# Altium footprint library PCB13.PcbLib: 25 footprints (part 1 of 2)
Each footprint in its own frame and in the unit in brackets; x right, y up, seen from the top. Pads: shape width x height; smd on the part's side, far side on the other; paste and mask are expansions set on the pad; w line width, h text height; cw(c..) or ccw(c..) is an arc to the next point about the centre after c.
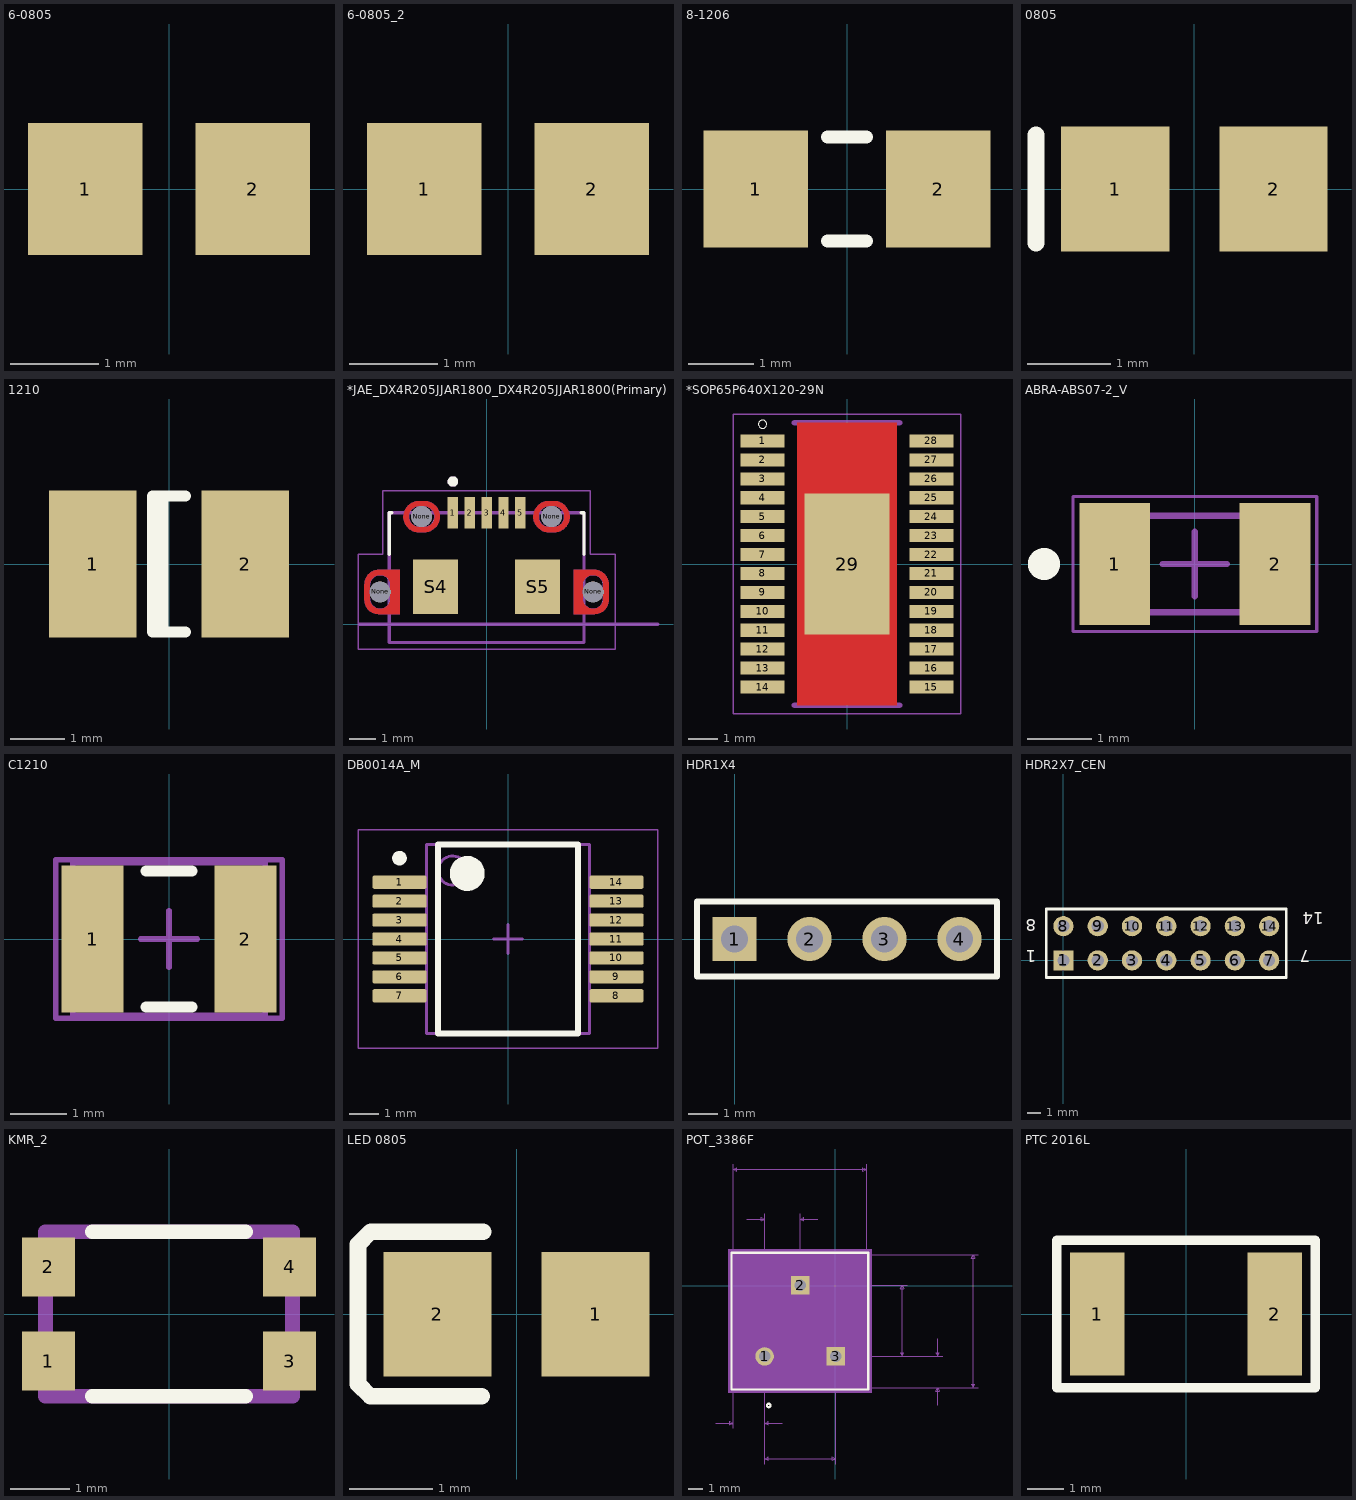
[diagram p0: the footprints below, top view; thin cyan lines are the x and y axes]

## 6-0805 [mm]
pads (2):
  rect 1.3x1.5 smd: 1(-0.95,0) 2(0.95,0)

## 6-0805_2 [mm]
pads (2):
  rect 1.3x1.5 smd: 1(-0.95,0) 2(0.95,0)

## 8-1206 [mm] "Chip Resistor; Body 3.1 x 1.6 mm (LxW typ)"
height 0.7
pads (2):
  rect 1.6x1.8 smd: 1(-1.4,0) 2(1.4,0)
Top Overlay:
  lines w0.2: -0.3,-0.8 0.3,-0.8 ; -0.3,0.8 0.3,0.8

## 0805 [mm]
pads (2):
  rect 1.3x1.5 smd: 1(-0.95,0) 2(0.95,0)
Top Overlay:
  lines w0.2: -1.9,-0.65 -1.9,0.65

## 1210 [mm] "Chip Capacitor; Body 3.2 x 2.5 mm (LxW typ)"
height 1.7
pads (2):
  rect 1.6x2.7 smd: 1(-1.4,0) 2(1.4,0)
Top Overlay:
  lines w0.2: -0.11,-1.25 -0.11,1.25 ; 0.3,-1.25 -0.3,-1.25 -0.3,1.25 0.3,1.25

## *JAE_DX4R205JJAR1800_DX4R205JJAR1800(Primary) [mm]
pads (11):
  rect 0.4x1.2 smd: 1(-1.3,4.3) 2(-0.65,4.3) 3(0,4.3) 4(0.65,4.3) 5(1.3,4.3)
  round 0.8 hole 0.8 unplated: None(-4.1,1.25) None(-2.5,4.15) None(2.5,4.15) None(4.1,1.25)
  rect 1.725x2.1 smd: S4(-1.962,1.45) S5(1.962,1.45)
Top Layer:
  region: 196 vertices and 0 holes, not listed, extent 3.35,0.4 4.7,2.1
  region: 199 vertices and 0 holes, not listed, extent -4.7,0.4 -3.35,2.1
  region: 259 vertices and 0 holes, not listed, extent -3.2,3.55 -1.8,4.75
  region: 262 vertices and 0 holes, not listed, extent 1.8,3.55 3.2,4.75
Bottom Layer:
  region: 196 vertices and 0 holes, not listed, extent 3.35,0.4 4.7,2.1
  region: 196 vertices and 0 holes, not listed, extent -4.7,0.4 -3.35,2.1
  region: 262 vertices and 0 holes, not listed, extent 1.8,3.55 3.2,4.75
  region: 259 vertices and 0 holes, not listed, extent -3.2,3.55 -1.8,4.75
Top Overlay:
  circle w0.2: c-1.3,5.5 r0.1
  lines w0.127: -3.75,2.7 -3.75,4.3 -3.65,4.3 ; 3.65,4.3 3.75,4.3 3.75,2.7
Top Paste:
  drawing of 4 lines, arcs and shapes, not listed
Bottom Paste:
  drawing of 4 lines, arcs and shapes, not listed
Top Solder:
  drawing of 4 lines, arcs and shapes, not listed
Bottom Solder:
  drawing of 4 lines, arcs and shapes, not listed
Mechanical 1:
  lines w0: -4.5,1 ccw(c-4.1,1) -3.7,1 -3.7,1.5 ccw(c-4.1,1.5) -4.5,1.5 -4.5,1 ; -2.6,3.75 cw(c-2.6,4.15) -2.6,4.55 -2.4,4.55 cw(c-2.4,4.15) -2.4,3.75 -2.6,3.75 ; 2.4,3.75 cw(c2.4,4.15) 2.4,4.55 2.6,4.55 cw(c2.6,4.15) 2.6,3.75 2.4,3.75 ; 3.7,1 ccw(c4.1,1) 4.5,1 4.5,1.5 ccw(c4.1,1.5) 3.7,1.5 3.7,1
Mechanical 4:
  circle w0.2: c-1.3,5.5 r0.1
  circle w0.2: c-1.3,5.5 r0.1
  lines w0.127: -3.75,-0.7 -3.75,4.3 ; -3.75,-0.7 3.75,-0.7 ; -3.75,-0.7 -3.75,4.3 ; -3.75,-0.7 3.75,-0.7 ; -3.75,4.3 3.75,4.3 ; -3.75,4.3 3.75,4.3 ; 3.75,-0.7 3.75,4.3 ; 3.75,-0.7 3.75,4.3 ; -4.9,0 6.6,0 -4.9,0
  text "PCB EDGE" at 4.8,-0.15 h1.88
  text "PCB EDGE" at 4.8,-0.15 h1.88
Mechanical 16:
  lines w0.05: -4.95,-0.95 4.95,-0.95 4.95,2.7 4,2.7 4,5.15 -4,5.15 -4,2.7 -4.95,2.7 -4.95,-0.95

## *SOP65P640X120-29N [mm]
pads (29):
  rect 1.5x0.45 smd: 1(-2.9,4.225) 2(-2.9,3.575) 3(-2.9,2.925) 4(-2.9,2.275) 5(-2.9,1.625) 6(-2.9,0.975) 7(-2.9,0.325) 8(-2.9,-0.325) 9(-2.9,-0.975) 10(-2.9,-1.625) 11(-2.9,-2.275) 12(-2.9,-2.925) 13(-2.9,-3.575) 14(-2.9,-4.225) 15(2.9,-4.225) 16(2.9,-3.575) 17(2.9,-2.925) 18(2.9,-2.275) 19(2.9,-1.625) 20(2.9,-0.975) 21(2.9,-0.325) 22(2.9,0.325) 23(2.9,0.975) 24(2.9,1.625) 25(2.9,2.275) 26(2.9,2.925) 27(2.9,3.575) 28(2.9,4.225)
  rect 2.921x4.826 smd: 29(0,0)
Top Layer:
  region: -1.7,4.85 1.7,4.85 1.7,-4.85 -1.7,-4.85
Top Overlay:
  circle w0: c-2.9,4.8 r0.141
Top Paste:
  region: -0.851,2.2 0.85,2.2 0.85,0.2 -0.851,0.2
  region: -0.851,-0.2 0.85,-0.2 0.85,-2.203 -0.851,-2.203
Mechanical 13:
  circle w0: c-1.3,4.4 r0.2
  circle w0.1: c0,0 r0.2
  circle w0.1: c1.3,0 r0.2
  circle w0.1: c-1.3,0 r0.2
  circle w0.1: c-1.3,1.3 r0.2
  circle w0.1: c0,1.3 r0.2
  circle w0.1: c1.3,1.3 r0.2
  circle w0.1: c1.3,2.6 r0.2
  circle w0.1: c1.3,3.9 r0.2
  circle w0.1: c0,3.9 r0.2
  circle w0.1: c0,2.6 r0.2
  circle w0.1: c-1.3,2.6 r0.2
  circle w0.1: c-1.3,3.9 r0.2
  circle w0.1: c-1.3,-1.3 r0.2
  circle w0.1: c0,-1.3 r0.2
  circle w0.1: c1.3,-1.3 r0.2
  circle w0.1: c1.3,-2.6 r0.2
  circle w0.1: c0,-2.6 r0.2
  circle w0.1: c-1.3,-2.6 r0.2
  circle w0.1: c-1.3,-3.9 r0.2
  circle w0.1: c0,-3.9 r0.2
  circle w0.1: c1.3,-3.9 r0.2
  circle w0: c-1.3,4.4 r0.2
  circle w0.1: c0,0 r0.2
  circle w0.1: c1.3,0 r0.2
  circle w0.1: c-1.3,0 r0.2
  circle w0.1: c-1.3,1.3 r0.2
  circle w0.1: c0,1.3 r0.2
  circle w0.1: c1.3,1.3 r0.2
  circle w0.1: c1.3,2.6 r0.2
  circle w0.1: c1.3,3.9 r0.2
  circle w0.1: c0,3.9 r0.2
  circle w0.1: c0,2.6 r0.2
  circle w0.1: c-1.3,2.6 r0.2
  circle w0.1: c-1.3,3.9 r0.2
  circle w0.1: c-1.3,-1.3 r0.2
  circle w0.1: c0,-1.3 r0.2
  circle w0.1: c1.3,-1.3 r0.2
  circle w0.1: c1.3,-2.6 r0.2
  circle w0.1: c0,-2.6 r0.2
  circle w0.1: c-1.3,-2.6 r0.2
  circle w0.1: c-1.3,-3.9 r0.2
  circle w0.1: c0,-3.9 r0.2
  circle w0.1: c1.3,-3.9 r0.2
  lines w0.2: -1.8,-4.85 1.8,-4.85 -1.8,-4.85 ; -1.8,4.85 1.8,4.85 -1.8,4.85
Mechanical 15:
  lines w0.05: -3.9,-5.15 3.9,-5.15 3.9,5.15 -3.9,5.15 -3.9,-5.15

## ABRA-ABS07-2_V [mm] "Hand Drawn, 2-Leads, Body 3.2x1.5mm, Pitch 2.5mm"
height 0.9
pads (2):
  rect 1.1x1.9 smd: 1(-1.25,0) 2(1.25,0)
Top Overlay:
  circle w0.25: c-2.35,0 r0.125
Mechanical 13:
  lines w0.1: -1.6,-0.75 1.6,-0.75 1.6,0.75 -1.6,0.75 -1.6,-0.75
Mechanical 15:
  lines w0.05: -1.9,-1.05 1.9,-1.05 1.9,1.05 -1.9,1.05 -1.9,-1.05
  lines w0.1: -0.5,0 0.5,0 ; 0,-0.5 0,0.5
3D body: height 0.9, standoff 0, extent -1.6,-0.75 1.6,0.75

## C1210 [mm] "Chip Capacitor, Body 3.2x2.5mm, IPC High Density"
height 1.3
pads (2):
  rect 1.1x2.6 smd: 1(-1.35,0) 2(1.35,0)
Top Overlay:
  lines w0.2: -0.4,-1.2 0.4,-1.2 ; -0.4,1.2 0.4,1.2
Mechanical 13:
  lines w0.1: -1.7,-1.35 1.7,-1.35 1.7,1.35 -1.7,1.35 -1.7,-1.35
Mechanical 15:
  lines w0.1: -0.5,0 0.5,0 ; 0,-0.5 0,0.5 ; -2,-1.4 2,-1.4 2,1.4 -2,1.4 -2,-1.4
3D body: height 1.3, standoff 0, extent -1.7,-1.35 1.7,1.35

## DB0014A_M [mm] "SOP, 14-Leads, Body 5.6x6.5mm, Pitch 0.65mm, IPC Low Density"
height 2
pads (14):
  rrect22% 1.85x0.45 smd: 1(-3.725,1.95) 2(-3.725,1.3) 3(-3.725,0.65) 4(-3.725,0) 5(-3.725,-0.65) 6(-3.725,-1.3) 7(-3.725,-1.95) 8(3.725,-1.95) 9(3.725,-1.3) 10(3.725,-0.65) 11(3.725,0) 12(3.725,0.65) 13(3.725,1.3) 14(3.725,1.95)
Top Overlay:
  circle w0.6: c-1.4,2.25 r0.3
  circle w0.25: c-3.725,2.775 r0.125
  lines w0.2: -2.4,-3.25 2.4,-3.25 2.4,3.25 -2.4,3.25 -2.4,-3.25
Mechanical 1:
  text ".Designator" at -1.651,-0.381 h1
Mechanical 13:
  circle w0.1: c-1.9,2.35 r0.5
  lines w0.1: -2.8,-3.25 2.8,-3.25 2.8,3.25 -2.8,3.25 -2.8,-3.25
Mechanical 15:
  lines w0.05: -5.15,-3.75 5.15,-3.75 5.15,3.75 -5.15,3.75 -5.15,-3.75
  lines w0.1: -0.5,0 0.5,0 ; 0,-0.5 0,0.5
3D body "DB0014A.stp": height 2, standoff 0, extent -3.905,-3.1 3.906,3.1

## HDR1X4 [mm] "Connector; Header; 4 Position"
pads (4):
  rect 1.5x1.5 hole 0.9: 1(0,0)
  round 1.5 hole 0.9: 2(2.54,0) 3(5.08,0) 4(7.62,0)
Top Overlay:
  lines w0.2: -1.27,-1.27 -1.27,1.27 8.89,1.27 8.89,-1.27 -1.27,-1.27

## HDR2X7_CEN [mm] "Connector; Header; 7x2 Position"
pads (14):
  rect 1.5x1.5 hole 0.9: 1(0,0)
  round 1.5 hole 0.9: 2(2.54,0) 3(5.08,0) 4(7.62,0) 5(10.16,0) 6(12.7,0) 7(15.24,0) 8(0,2.54) 9(2.54,2.54) 10(5.08,2.54) 11(7.62,2.54) 12(10.16,2.54) 13(12.7,2.54) 14(15.24,2.54)
Top Overlay:
  lines w0.2: -1.27,-1.27 -1.27,3.81 16.51,3.81 16.51,-1.27 -1.27,-1.27
  text "14" at 19.304,3.556 h0.89
  text "7" at 18.288,0.762 h0.89
  text "1" at -2.032,0.762 h0.89
  text "8" at -2.032,3.048 h0.89

## KMR_2 [mm]
pads (4):
  rect 0.9x1 smd: 1(-2.05,-0.8) 2(-2.05,0.8) 3(2.05,-0.8) 4(2.05,0.8)
Top Overlay:
  lines w0.25: -1.3,-1.4 1.3,-1.4 ; -1.3,1.4 1.3,1.4
Mechanical 13:
  lines w0.25: -2.1,-1.4 2.1,-1.4 2.1,1.4 -2.1,1.4 -2.1,-1.4

## LED 0805 [mm]
pads (2):
  rect 1.3x1.5 smd: 1(0.95,0) 2(-0.95,0)
Top Overlay:
  lines w0.2: -0.417,-0.986 -1.758,-0.986 -1.905,-0.838 -1.905,0.838 -1.753,0.991 -0.402,0.991

## POT_3386F [mil]
pads (3):
  round 52 hole 32 mask+0: 1(-199,-199)
  rect 52x52 hole 32 mask+0: 2(-99,1) 3(1,-199)
Top Overlay:
  circle w6: c-187.5,-337 r5
  lines w6: -292,-292 93,-292 93,93 -292,93 -292,-292
Mechanical 5:
  region: -302,103 103,103 103,-302 -302,-302
Mechanical 7:
  lines w1: -337,-387 -287,-387 ; -287,-402 -287,-297 ; -287,88 -287,343 ; -249,188 -199,188 ; -199,-502 -199,-235 ; -199,-402 -199,-235 ; -199,203 -199,-235 ; -149,-387 -199,-387 ; -99,-35 -99,203 ; -63,1 203,1 ; -49,188 -99,188 ; 1,-502 1,-35 ; 88,343 88,88 403,88 ; 203,-199 37,-199 303,-199 ; 288,-337 288,-287 ; 288,-149 288,-199 ; 303,-287 88,-287 403,-287 ; -287,-387 -297,-382 -297,-392 -287,-387 ; -287,328 88,328 ; -287,328 -277,333 -277,323 -287,328 ; -199,-487 1,-487 ; -199,-487 -189,-482 -189,-492 -199,-487 ; -199,-387 -189,-382 -189,-392 -199,-387 ; -199,188 -209,193 -209,183 -199,188 ; -99,188 -89,193 -89,183 -99,188 ; 1,-487 -9,-482 -9,-492 1,-487 ; 88,328 78,333 78,323 88,328 ; 188,-199 188,1 ; 188,-199 183,-189 193,-189 188,-199 ; 188,1 183,-9 193,-9 188,1 ; 288,-287 283,-297 293,-297 288,-287 ; 288,-199 283,-189 293,-189 288,-199 ; 388,-287 388,88 ; 388,-287 383,-277 393,-277 388,-287 ; 388,88 383,78 393,78 388,88
  text "Pin 1 Padstyle: SX52Y52D32P" at -437,-637 h50
  text "Default Padstyle: EX52Y52D32P" at -462,-712 h50
  text "Alt 1 Padstyle: OX60Y90D30P" at -437,-787 h50
  text "Alt 2 Padstyle: OX90Y60D30P" at -437,-862 h50
  text "0.088in/2.235mm" at -336.75,-432 h25
  text "0.1in/2.54mm" at -224,208 h25
  text "0.2in/5.08mm" at -174,-532 h25
  text "0.375in/9.525mm" at -193.25,348 h25
  text "0.2in/5.08mm" at 208,-112 h25
  text "0.088in/2.235mm" at 308,-305.25 h25
  text "0.375in/9.525mm" at 408,-112 h25
Mechanical 13:
  circle w0: c-187.5,-267 r5
  circle w0: c-237,38 r40
  lines w1: -287,-287 88,-287 88,88 -287,88 -287,-287
Mechanical 15:
  region: 98,-297 -297,-297 -297,98 98,98
  lines w6: -297,-297 -297,98 98,98 98,-297 -297,-297
3D body: height 10, standoff 0, extent 0,0 10,10

## PTC 2016L [mil]
pads (2):
  rect 59x133 smd: 1(-96,0) 2(96,0)
Top Overlay:
  lines w10: -140,-80 -140,10 -140,80 140,80 140,-80 -140,-80